# EAGLE library part PINHD-6 (library m_connector)
6 Pin Header
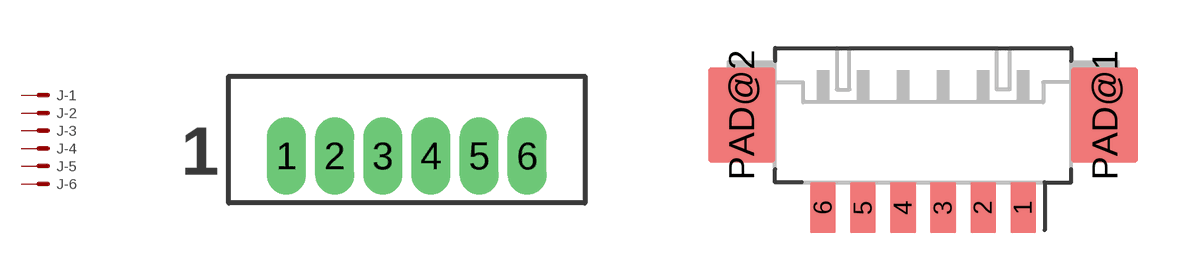
[diagram p4: symbol with the pads of MOLEX_53047-0610; footprints MOLEX_53047-0610, MOLEX_53261-0671]

Designator prefix J; gates -1=M -2=M -3=M -4=M -5=M -6=M

## PINHD-6MOLEX-PICOBLADE (MANUF: Molex; PARTNUM: 53047-0610)  [MOLEX_53047-0610]
1  -1:S  pas
2  -2:S  pas
3  -3:S  pas
4  -4:S  pas
5  -5:S  pas
6  -6:S  pas

## PINHD-6MOLEX-PICOBLADE_SMT_HORIZONTAL (MANUF: Molex; PARTNUM: 53261-0671)  [MOLEX_53261-0671]
Pads as for MOLEX_53047-0610

## PINHD-6MOLEX-PICOBLADE_SMT_VERTICAL (MANUF: Molex; PARTNUM: 53398-0671)  [MOLEX_53398-0671]
Pads as for MOLEX_53047-0610

## PINHD-6PHOENIX_PTSA_0,5/6-2,5-F (MANUF: Phoenix; PARTNUM: PTSA 0,5/6-2,5-F)  [PHOENIX_TERMINAL_BLOCK_PTSA_0,5/6-2,5-F]
P$1  -1:S  pas
P$2  -2:S  pas
P$3  -3:S  pas
P$4  -4:S  pas
P$5  -5:S  pas
P$6  -6:S  pas

## PINHD-6PHOENIX_PTSM_0,5/6-2,5-SMD (MANUF: Phoenix Contact; PARTNUM: 1778735)  [PHOENIX_PTSM_0,5/6-HV-2,5-SMD]
Pads as for MOLEX_53047-0610

## Footprint MOLEX_53047-0610 (pad centres in mm)
Molex 53047 Series, 1.25mm Pitch, 6 Conductor Molex 1.25mm pitch through hole connector. Pre tinned phosphor bronze pins, mates with 51021 series.
drill 0.5 long: 1 -3.125,0; 2 -1.875,0; 3 -0.625,0; 4 0.625,0; 5 1.875,0; 6 3.125,0

## Footprint MOLEX_53261-0671 (pad centres in mm)
Molex 53261 Series PicoBlade, 1.25mm Pitch, Right Angle, SMT, 6 Conductor Molex 1.25mm pitch right angle SMT connector. Pre tinned phosphor bronze pins, mates with 51021 series.
smd 0.8 x 1.6: 1 3.125,-0.8; 2 1.875,-0.8; 3 0.625,-0.8; 4 -0.625,-0.8; 5 -1.875,-0.8; 6 -3.125,-0.8
smd 2.1 x 3: PAD@1 5.675,2.1; PAD@2 -5.675,2.1

## Footprint MOLEX_53398-0671 (pad centres in mm)
Molex 53398 Series PicoBlade, 1.25mm Pitch, Vertical, SMT, 6 Conductor Molex 1.25mm pitch vertical SMT connector. Pre tinned phosphor bronze pins, mates with 51021 series.
smd 0.8 x 1.3: 1 3.125,-0.65; 2 1.875,-0.65; 3 0.625,-0.65; 4 -0.625,-0.65; 5 -1.875,-0.65; 6 -3.125,-0.65
smd 2.1 x 3: PAD@1 5.675,2.1; PAD@2 -5.675,2.1

## Footprint PHOENIX_TERMINAL_BLOCK_PTSA_0,5/6-2,5-F (pad centres in mm)
Phoenix Contact PCB Terminal Block, 2.5mm Pitch, 6 Conductor Specifications: number of positions: 6 nominal current: 2 A nom. voltage: 250 V pitch: 2.5 mm connection method: Push-in spring connection mounting: Wave soldering conductor/PCB connection direction: 45° color: green Soldering legs in front area, single row Manufacturer Specification Page <https://www.phoenixcontact.com/online/portal/gb/?uri=pxc-oc-itemdetail:pid=1989780&library=gben&pcck=P-11-01-05&tab=1&selectedCategory=ALL> Octopart search <https://octopart.com/search?q=PTSA%200%2C5%2F%206-2%2C5-F> Added 2019-01-28 Updated footprint and keepout: 2019-09-04
drill 1 long: P$1 -6.25,0; P$2 -3.75,0; P$3 -1.25,0; P$4 1.25,0; P$5 3.75,0; P$6 6.25,0

## Footprint PHOENIX_PTSM_0,5/6-HV-2,5-SMD (pad centres in mm)
Feed-through header - PTSM 0,5/ 6-HV-2,5-SMD Data from Phoenix Contact Datasheet https://www.phoenixcontact.com/us/products/1778735 Added 2023-05-01
smd 1.2 x 4.4: 1 -6.25,-2.7; 2 -3.75,-2.7; 3 -1.25,-2.7; 4 1.25,-2.7; 5 3.75,-2.7; 6 6.25,-2.7
smd 2.2 x 5.6: PAD@1 -9.55,0; PAD@2 9.55,0
hole 1 at -7.65,-2.1
hole 1 at 7.65,-2.1